# Altium footprint library lianchen_lib.PcbLib: 233 footprints (part 15 of 15)
Each footprint in its own frame and in the unit in brackets; x right, y up, seen from the top. Pads: shape width x height; smd on the part's side, far side on the other; paste and mask are expansions set on the pad; w line width, h text height; cw(c..) or ccw(c..) is an arc to the next point about the centre after c.
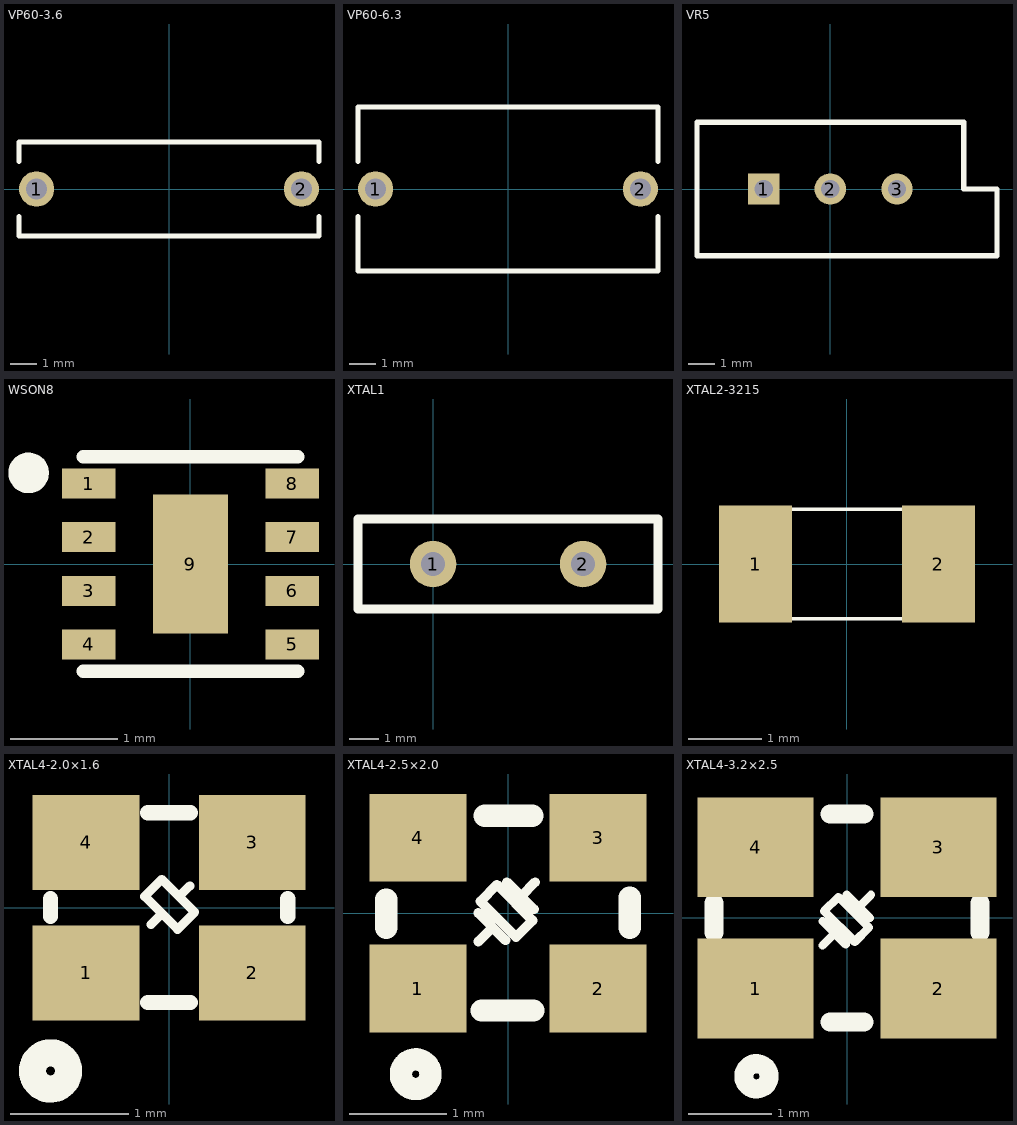
[diagram p14: the footprints below, top view; thin cyan lines are the x and y axes]

## VP60-3.6 [mm] "Capacitor, Ceramic, Thru-Hole, Dipped Radial; Body 11.5 x 3.6 mm (WxT) Pin Spacing 10.16 mm (typ)"
height 14.5
pads (2):
  round 1.35 hole 0.8: 1(-5.08,0) 2(5.08,0)
Top Overlay:
  lines w0.2: -5.75,-1.05 -5.75,-1.8 5.75,-1.8 5.75,-1.05 ; -5.75,1.05 -5.75,1.8 5.75,1.8 5.75,1.05

## VP60-6.3 [mm] "Capacitor, Ceramic, Thru-Hole, Dipped Radial; Body 11.5 x 6.3 mm (WxT) Pin Spacing 10.16 mm (typ)"
height 14.5
pads (2):
  round 1.35 hole 0.8: 1(-5.08,0) 2(5.08,0)
Top Overlay:
  lines w0.2: -5.75,-1.05 -5.75,-3.15 5.75,-3.15 5.75,-1.05 ; -5.75,1.05 -5.75,3.15 5.75,3.15 5.75,1.05

## VR5 [mm]
pads (3):
  rect 1.2x1.2 hole 0.7: 1(-2.54,0)
  round 1.2 hole 0.7: 2(0,0) 3(2.54,0)
Top Overlay:
  lines w0.2: -5.08,-2.54 6.35,-2.54 6.35,0 5.08,0 5.08,2.54 -5.08,2.54 -5.08,-2.54

## WSON8 [mm]
pads (9):
  rect 0.5x0.28 smd paste-0.04 mask+0.05: 1(-0.95,0.75) 2(-0.95,0.25) 3(-0.95,-0.25) 4(-0.95,-0.75) 5(0.95,-0.75) 6(0.95,-0.25) 7(0.95,0.25) 8(0.95,0.75)
  rect 0.7x1.3 smd paste-0.05 mask+0.05: 9(0,0)
Top Overlay:
  circle w0.2: c-1.51,0.85 r0.089
  lines w0.127: -1,-1 1,-1 ; -1,1 1,1

## XTAL1 [mil]
pads (2):
  round 62 hole 32: 1(0,0) 2(200,0)
Top Overlay:
  lines w12: -100,-60 300,-60 300,60 -100,60 -100,-60

## XTAL2-3215 [mm]
pads (2):
  rect 1x1.6 smd: 1(-1.25,0) 2(1.25,0)
Top Overlay:
  lines w0.05: -1.6,-0.75 1.6,-0.75 1.6,0.75 -1.6,0.75 -1.6,-0.75

## XTAL4-2.0×1.6 [mm]
height 0.5
pads (4):
  rect 0.9x0.8 smd: 1(-0.7,-0.55) 2(0.7,-0.55) 3(0.7,0.55) 4(-0.7,0.55)
Top Overlay:
  circle w0.229: c-0.999,-1.376 r0.152
  lines w0.076: -0.151,-0.141 -0.063,-0.053 ; 0.086,0.096 0.174,0.184 ; -0.206,0.095 0.071,-0.182 0.215,-0.038 -0.062,0.239 -0.206,0.095
  lines w0.127: -1,-0.075 -1,0.075 ; -0.18,-0.8 0.18,-0.8 ; -0.18,0.8 0.18,0.8 ; 1,-0.075 1,0.075

## XTAL4-2.5×2.0 [mm]
height 0.75
pads (4):
  rect 1x0.9 smd: 1(-0.925,-0.775) 2(0.925,-0.775) 3(0.925,0.775) 4(-0.925,0.775)
Top Overlay:
  circle w0.229: c-0.949,-1.655 r0.152
  lines w0.1: -0.305,-0.292 -0.165,-0.152 ; -0.305,0 -0.025,-0.279 ; -0.013,0.318 0.267,0.038 ; 0.14,0.178 0.279,0.318 ; -0.285,0.121 0.083,-0.247 0.254,-0.076 -0.114,0.292 -0.285,0.121
  lines w0.229: -1.25,-0.15 -1.25,0.14 ; -0.27,-1 0.26,-1 ; -0.24,1 0.25,1 ; 1.25,-0.15 1.25,0.16

## XTAL4-3.2×2.5 [mm] "3.2x2.5x0.75mm"
height 0.75
pads (4):
  rect 1.4x1.2 smd: 1(-1.1,-0.85) 2(1.1,-0.85) 3(1.1,0.85) 4(-1.1,0.85)
Top Overlay:
  circle w0.229: c-1.089,-1.905 r0.152
  lines w0.1: -0.295,-0.332 -0.155,-0.192 ; -0.295,-0.04 -0.015,-0.319 ; -0.003,0.278 0.277,-0.002 ; 0.15,0.138 0.289,0.278 ; -0.275,0.081 0.093,-0.287 0.264,-0.116 -0.104,0.252 -0.275,0.081
  lines w0.229: -1.6,-0.178 -1.6,0.178 ; -0.203,-1.25 0.203,-1.25 ; -0.203,1.25 0.203,1.25 ; 1.6,-0.178 1.6,0.178
3D body "SX3225.STEP": height 0.81, standoff 0, extent -1.6,-1.24 1.6,1.26